# EAGLE library part AD849* (library Analog Devices)
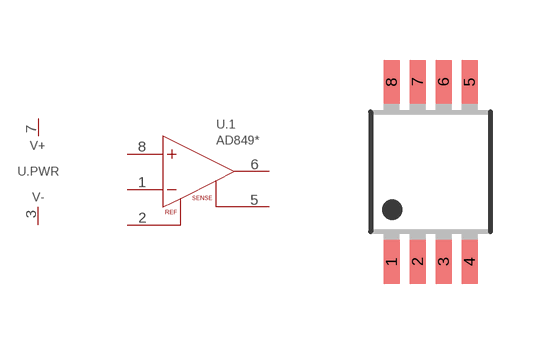
[diagram p47: symbol with the pads of MSOP8; footprint MSOP8]

Designator prefix U; gates .1=AD849X .PWR=OP_AMP_PWR

## AD8494, AD8495, AD8496, AD8497  [MSOP8]
1  .1:-IN  in
2  .1:REF  in
3  .PWR:V-  pwr
5  .1:SENSE  in
6  .1:OUT  out
7  .PWR:V+  pwr
8  .1:+IN  in

## Footprint MSOP8 (pad centres in mm)
smd 0.4 x 1.1: 1 -0.975,-2.25; 2 -0.325,-2.25; 3 0.325,-2.25; 4 0.975,-2.25; 5 0.975,2.25; 6 0.325,2.25; 7 -0.325,2.25; 8 -0.975,2.25